# Altium schematic symbol library SIR4608DP-T1-GE3.SchLib: 1 symbol
Pins are listed as number, name and electrical type; pins without a type are passive.

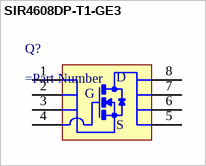
[diagram p0: symbol SIR4608DP-T1-GE3]

## SIR4608DP-T1-GE3
designator Q?
=Description
pins: 1, 2, 3, 4, 5, 6, 7, 8
text: D; G; S